# EAGLE library part 75162-24 (library 751xx)
75xxx DEVICE
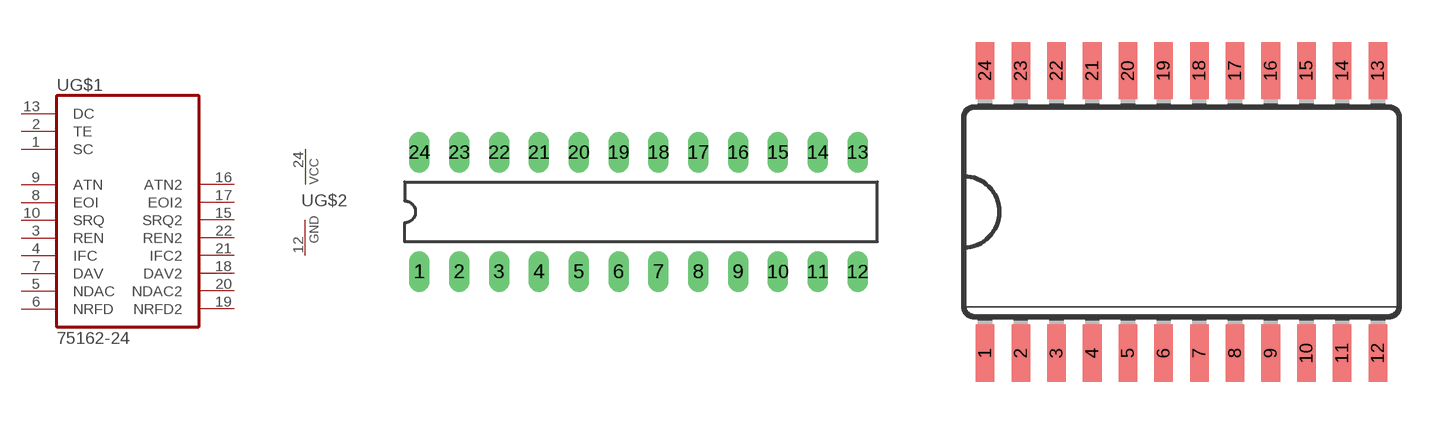
[diagram p11: symbol with the pads of DIL24-3; footprints DIL24-3, SO24L]

Designator prefix U; gates G$1=75162-24 G$2=PWRN

## 75162-24P  [DIL24-3]
1  G$1:SC  in
2  G$1:TE  in
3  G$1:REN
4  G$1:IFC
5  G$1:NDAC
6  G$1:NRFD
7  G$1:DAV
8  G$1:EOI
9  G$1:ATN
10  G$1:SRQ
11  G$1:NC11  nc
12  G$2:GND  pwr
13  G$1:DC  in
14  G$1:NC14  nc
15  G$1:SRQ2
16  G$1:ATN2
17  G$1:EOI2
18  G$1:DAV2
19  G$1:NRFD2
20  G$1:NDAC2
21  G$1:IFC2
22  G$1:REN2
23  G$1:NC  nc
24  G$2:VCC  pwr

## 75162-24SO  [SO24L]
Pads as for DIL24-3

## Footprint DIL24-3 (pad centres in mm)
Dual In Line Package 0.3 inch
drill 0.813 long: 1 -13.97,-3.81; 2 -11.43,-3.81; 3 -8.89,-3.81; 4 -6.35,-3.81; 5 -3.81,-3.81; 6 -1.27,-3.81; 7 1.27,-3.81; 8 3.81,-3.81; 9 6.35,-3.81; 10 8.89,-3.81; 11 11.43,-3.81; 12 13.97,-3.81; 13 13.97,3.81; 14 11.43,3.81; 15 8.89,3.81; 16 6.35,3.81; 17 3.81,3.81; 18 1.27,3.81; 19 -1.27,3.81; 20 -3.81,3.81; 21 -6.35,3.81; 22 -8.89,3.81; 23 -11.43,3.81; 24 -13.97,3.81

## Footprint SO24L (pad centres in mm)
Small Outline package large
smd 0.66 x 2.032: 1 -6.985,-5.029; 2 -5.715,-5.029; 3 -4.445,-5.029; 4 -3.175,-5.029; 5 -1.905,-5.029; 6 -0.635,-5.029; 7 0.635,-5.029; 8 1.905,-5.029; 9 3.175,-5.029; 10 4.445,-5.029; 11 5.715,-5.029; 12 6.985,-5.029; 13 6.985,5.029; 14 5.715,5.029; 15 4.445,5.029; 16 3.175,5.029; 17 1.905,5.029; 18 0.635,5.029; 19 -0.635,5.029; 20 -1.905,5.029; 21 -3.175,5.029; 22 -4.445,5.029; 23 -5.715,5.029; 24 -6.985,5.029